# Altium integrated library Resistors$.IntLib: 1243 symbols (part 6 of 7)
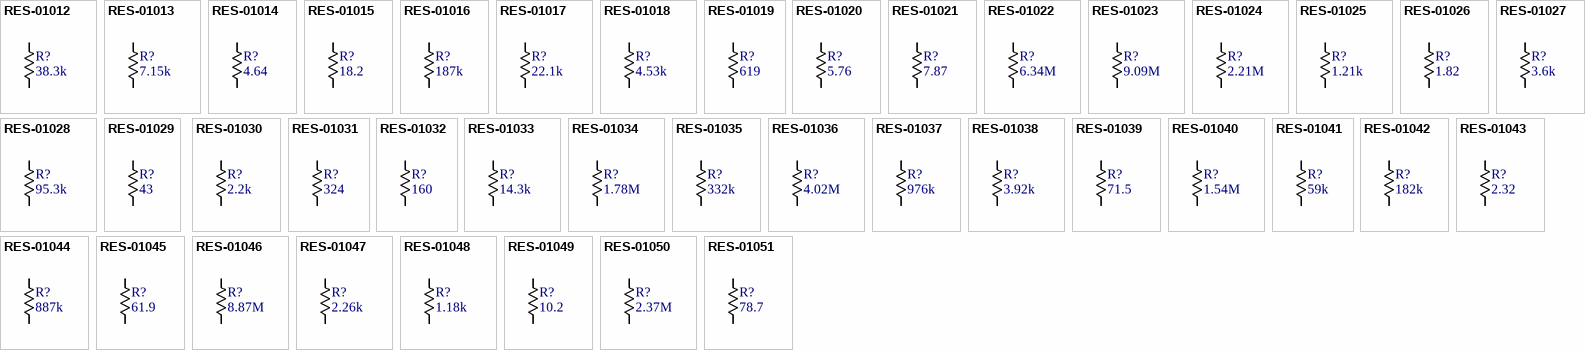
[diagram p37: symbols RES-01012 to RES-01051]

## RES-01018
designator R?, comment 4.53k
RES SMD 4.53K OHM 1% 1/10W 0603; Part Number: RES-01018; Manufacturer: Vishay Dale; Manufacturer PN: CRCW06034K53FKEA; Resistance: 4.53k; Tolerance: ±1%; Power Rating: 1/10W; Cost: 0.1
footprint chip_0603
pins: 1, 2

## RES-01019
designator R?, comment 619
RES SMD 619 OHM 1% 1/10W 0603; Part Number: RES-01019; Manufacturer: Vishay Dale; Manufacturer PN: CRCW0603619RFKEA; Resistance: 619; Tolerance: ±1%; Power Rating: 1/10W; Cost: 0.1
footprint chip_0603
pins: 1, 2

## RES-01020
designator R?, comment 5.76
RES SMD 5.76 OHM 1% 1/10W 0603; Part Number: RES-01020; Manufacturer: Vishay Dale; Manufacturer PN: CRCW06035R76FKEA; Resistance: 5.76; Tolerance: ±1%; Power Rating: 1/10W; Cost: 0.1
footprint chip_0603
pins: 1, 2

## RES-01021
designator R?, comment 7.87
RES SMD 7.87 OHM 1% 1/10W 0603; Part Number: RES-01021; Manufacturer: Vishay Dale; Manufacturer PN: CRCW06037R87FKEA; Resistance: 7.87; Tolerance: ±1%; Power Rating: 1/10W; Cost: 0.1
footprint chip_0603
pins: 1, 2

## RES-01022
designator R?, comment 6.34M
RES SMD 6.34M OHM 1% 1/10W 0603; Part Number: RES-01022; Manufacturer: Vishay Dale; Manufacturer PN: CRCW06036M34FKEA; Resistance: 6.34M; Tolerance: ±1%; Power Rating: 1/10W; Cost: 0.1
footprint chip_0603
pins: 1, 2

## RES-01023
designator R?, comment 9.09M
RES SMD 9.09M OHM 1% 1/10W 0603; Part Number: RES-01023; Manufacturer: Vishay Dale; Manufacturer PN: CRCW06039M09FKEA; Resistance: 9.09M; Tolerance: ±1%; Power Rating: 1/10W; Cost: 0.1
footprint chip_0603
pins: 1, 2

## RES-01024
designator R?, comment 2.21M
RES SMD 2.21M OHM 1% 1/10W 0603; Part Number: RES-01024; Manufacturer: Vishay Dale; Manufacturer PN: CRCW06032M21FKEA; Resistance: 2.21M; Tolerance: ±1%; Power Rating: 1/10W; Cost: 0.1
footprint chip_0603
pins: 1, 2

## RES-01025
designator R?, comment 1.21k
RES SMD 1.21K OHM 1% 1/10W 0603; Part Number: RES-01025; Manufacturer: Vishay Dale; Manufacturer PN: CRCW06031K21FKEA; Resistance: 1.21k; Tolerance: ±1%; Power Rating: 1/10W; Cost: 0.1
footprint chip_0603
pins: 1, 2

## RES-01026
designator R?, comment 1.82
RES SMD 1.82 OHM 1% 1/10W 0603; Part Number: RES-01026; Manufacturer: Vishay Dale; Manufacturer PN: CRCW06031R82FKEA; Resistance: 1.82; Tolerance: ±1%; Power Rating: 1/10W; Cost: 0.1
footprint chip_0603
pins: 1, 2

## RES-01027
designator R?, comment 3.6k
RES SMD 3.6K OHM 1% 1/10W 0603; Part Number: RES-01027; Manufacturer: Vishay Dale; Manufacturer PN: CRCW06033K60FKEA; Resistance: 3.6k; Tolerance: ±1%; Power Rating: 1/10W; Cost: 0.1
footprint chip_0603
pins: 1, 2

## RES-01028
designator R?, comment 95.3k
RES SMD 95.3K OHM 1% 1/10W 0603; Part Number: RES-01028; Manufacturer: Vishay Dale; Manufacturer PN: CRCW060395K3FKEA; Resistance: 95.3k; Tolerance: ±1%; Power Rating: 1/10W; Cost: 0.1
footprint chip_0603
pins: 1, 2

## RES-01029
designator R?, comment 43
RES SMD 43 OHM 1% 1/10W 0603; Part Number: RES-01029; Manufacturer: Vishay Dale; Manufacturer PN: CRCW060343R0FKEA; Resistance: 43; Tolerance: ±1%; Power Rating: 1/10W; Cost: 0.1
footprint chip_0603
pins: 1, 2

## RES-01030
designator R?, comment 2.2k
RES SMD 2.2K OHM 1% 1/10W 0603; Part Number: RES-01030; Manufacturer: Vishay Dale; Manufacturer PN: CRCW06032K20FKEB; Resistance: 2.2k; Tolerance: ±1%; Power Rating: 1/10W; Cost: 0.1
footprint chip_0603
pins: 1, 2

## RES-01031
designator R?, comment 324
RES SMD 324 OHM 1% 1/10W 0603; Part Number: RES-01031; Manufacturer: Vishay Dale; Manufacturer PN: CRCW0603324RFKEA; Resistance: 324; Tolerance: ±1%; Power Rating: 1/10W; Cost: 0.1
footprint chip_0603
pins: 1, 2

## RES-01032
designator R?, comment 160
RES SMD 160 OHM 1% 1/10W 0603; Part Number: RES-01032; Manufacturer: Vishay Dale; Manufacturer PN: CRCW0603160RFKEA; Resistance: 160; Tolerance: ±1%; Power Rating: 1/10W; Cost: 0.1
footprint chip_0603
pins: 1, 2

## RES-01033
designator R?, comment 14.3k
RES SMD 14.3K OHM 1% 1/10W 0603; Part Number: RES-01033; Manufacturer: Vishay Dale; Manufacturer PN: CRCW060314K3FKEA; Resistance: 14.3k; Tolerance: ±1%; Power Rating: 1/10W; Cost: 0.1
footprint chip_0603
pins: 1, 2

## RES-01034
designator R?, comment 1.78M
RES SMD 1.78M OHM 1% 1/10W 0603; Part Number: RES-01034; Manufacturer: Vishay Dale; Manufacturer PN: CRCW06031M78FKEA; Resistance: 1.78M; Tolerance: ±1%; Power Rating: 1/10W; Cost: 0.1
footprint chip_0603
pins: 1, 2

## RES-01035
designator R?, comment 332k
RES SMD 332K OHM 1% 1/10W 0603; Part Number: RES-01035; Manufacturer: Vishay Dale; Manufacturer PN: CRCW0603332KFKEA; Resistance: 332k; Tolerance: ±1%; Power Rating: 1/10W; Cost: 0.1
footprint chip_0603
pins: 1, 2

## RES-01036
designator R?, comment 4.02M
RES SMD 4.02M OHM 1% 1/10W 0603; Part Number: RES-01036; Manufacturer: Vishay Dale; Manufacturer PN: CRCW06034M02FKEA; Resistance: 4.02M; Tolerance: ±1%; Power Rating: 1/10W; Cost: 0.1
footprint chip_0603
pins: 1, 2

## RES-01037
designator R?, comment 976k
RES SMD 976K OHM 1% 1/10W 0603; Part Number: RES-01037; Manufacturer: Vishay Dale; Manufacturer PN: CRCW0603976KFKEA; Resistance: 976k; Tolerance: ±1%; Power Rating: 1/10W; Cost: 0.1
footprint chip_0603
pins: 1, 2

## RES-01038
designator R?, comment 3.92k
RES SMD 3.92K OHM 1% 1/10W 0603; Part Number: RES-01038; Manufacturer: Vishay Dale; Manufacturer PN: CRCW06033K92FKEA; Resistance: 3.92k; Tolerance: ±1%; Power Rating: 1/10W; Cost: 0.1
footprint chip_0603
pins: 1, 2

## RES-01039
designator R?, comment 71.5
RES SMD 71.5 OHM 1% 1/10W 0603; Part Number: RES-01039; Manufacturer: Vishay Dale; Manufacturer PN: CRCW060371R5FKEA; Resistance: 71.5; Tolerance: ±1%; Power Rating: 1/10W; Cost: 0.1
footprint chip_0603
pins: 1, 2

## RES-01040
designator R?, comment 1.54M
RES SMD 1.54M OHM 1% 1/10W 0603; Part Number: RES-01040; Manufacturer: Vishay Dale; Manufacturer PN: CRCW06031M54FKEA; Resistance: 1.54M; Tolerance: ±1%; Power Rating: 1/10W; Cost: 0.1
footprint chip_0603
pins: 1, 2

## RES-01041
designator R?, comment 59k
RES SMD 59K OHM 1% 1/10W 0603; Part Number: RES-01041; Manufacturer: Vishay Dale; Manufacturer PN: CRCW060359K0FKEA; Resistance: 59k; Tolerance: ±1%; Power Rating: 1/10W; Cost: 0.1
footprint chip_0603
pins: 1, 2

## RES-01042
designator R?, comment 182k
RES SMD 182K OHM 1% 1/10W 0603; Part Number: RES-01042; Manufacturer: Vishay Dale; Manufacturer PN: CRCW0603182KFKEA; Resistance: 182k; Tolerance: ±1%; Power Rating: 1/10W; Cost: 0.1
footprint chip_0603
pins: 1, 2

## RES-01043
designator R?, comment 2.32
RES SMD 2.32 OHM 1% 1/10W 0603; Part Number: RES-01043; Manufacturer: Vishay Dale; Manufacturer PN: CRCW06032R32FKEA; Resistance: 2.32; Tolerance: ±1%; Power Rating: 1/10W; Cost: 0.1
footprint chip_0603
pins: 1, 2

## RES-01044
designator R?, comment 887k
RES SMD 887K OHM 1% 1/10W 0603; Part Number: RES-01044; Manufacturer: Vishay Dale; Manufacturer PN: CRCW0603887KFKEA; Resistance: 887k; Tolerance: ±1%; Power Rating: 1/10W; Cost: 0.1
footprint chip_0603
pins: 1, 2

## RES-01045
designator R?, comment 61.9
RES SMD 61.9 OHM 1% 1/10W 0603; Part Number: RES-01045; Manufacturer: Vishay Dale; Manufacturer PN: CRCW060361R9FKEA; Resistance: 61.9; Tolerance: ±1%; Power Rating: 1/10W; Cost: 0.1
footprint chip_0603
pins: 1, 2

## RES-01046
designator R?, comment 8.87M
RES SMD 8.87M OHM 1% 1/10W 0603; Part Number: RES-01046; Manufacturer: Vishay Dale; Manufacturer PN: CRCW06038M87FKEA; Resistance: 8.87M; Tolerance: ±1%; Power Rating: 1/10W; Cost: 0.1
footprint chip_0603
pins: 1, 2

## RES-01047
designator R?, comment 2.26k
RES SMD 2.26K OHM 1% 1/10W 0603; Part Number: RES-01047; Manufacturer: Vishay Dale; Manufacturer PN: CRCW06032K26FKEA; Resistance: 2.26k; Tolerance: ±1%; Power Rating: 1/10W; Cost: 0.1
footprint chip_0603
pins: 1, 2

## RES-01048
designator R?, comment 1.18k
RES SMD 1.18K OHM 1% 1/10W 0603; Part Number: RES-01048; Manufacturer: Vishay Dale; Manufacturer PN: CRCW06031K18FKEA; Resistance: 1.18k; Tolerance: ±1%; Power Rating: 1/10W; Cost: 0.1
footprint chip_0603
pins: 1, 2

## RES-01049
designator R?, comment 10.2
RES SMD 10.2 OHM 1% 1/10W 0603; Part Number: RES-01049; Manufacturer: Vishay Dale; Manufacturer PN: CRCW060310R2FKEA; Resistance: 10.2; Tolerance: ±1%; Power Rating: 1/10W; Cost: 0.1
footprint chip_0603
pins: 1, 2

## RES-01050
designator R?, comment 2.37M
RES SMD 2.37M OHM 1% 1/10W 0603; Part Number: RES-01050; Manufacturer: Vishay Dale; Manufacturer PN: CRCW06032M37FKEA; Resistance: 2.37M; Tolerance: ±1%; Power Rating: 1/10W; Cost: 0.1
footprint chip_0603
pins: 1, 2

## RES-01051
designator R?, comment 78.7
RES SMD 78.7 OHM 1% 1/10W 0603; Part Number: RES-01051; Manufacturer: Vishay Dale; Manufacturer PN: CRCW060378R7FKEA; Resistance: 78.7; Tolerance: ±1%; Power Rating: 1/10W; Cost: 0.1
footprint chip_0603
pins: 1, 2

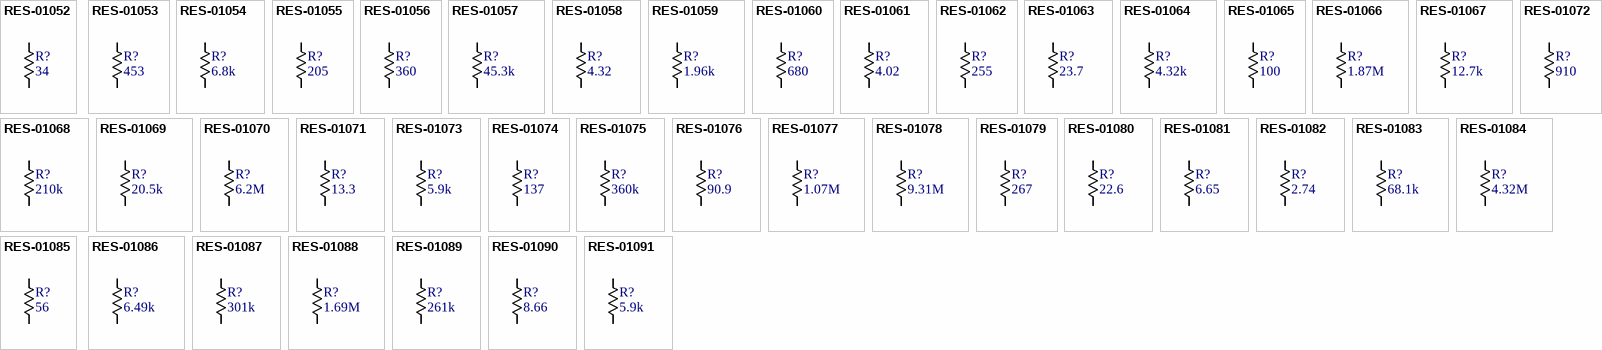
[diagram p28: symbols RES-01052 to RES-01091]

## RES-01052
designator R?, comment 34
RES SMD 34 OHM 1% 1/10W 0603; Part Number: RES-01052; Manufacturer: Vishay Dale; Manufacturer PN: CRCW060334R0FKEA; Resistance: 34; Tolerance: ±1%; Power Rating: 1/10W; Cost: 0.1
footprint chip_0603
pins: 1, 2

## RES-01053
designator R?, comment 453
RES SMD 453 OHM 1% 1/10W 0603; Part Number: RES-01053; Manufacturer: Vishay Dale; Manufacturer PN: CRCW0603453RFKEA; Resistance: 453; Tolerance: ±1%; Power Rating: 1/10W; Cost: 0.1
footprint chip_0603
pins: 1, 2

## RES-01054
designator R?, comment 6.8k
RES SMD 6.8K OHM 1% 1/10W 0603; Part Number: RES-01054; Manufacturer: Vishay Dale; Manufacturer PN: CRCW06036K80FKEA; Resistance: 6.8k; Tolerance: ±1%; Power Rating: 1/10W; Cost: 0.1
footprint chip_0603
pins: 1, 2

## RES-01055
designator R?, comment 205
RES SMD 205 OHM 1% 1/10W 0603; Part Number: RES-01055; Manufacturer: Vishay Dale; Manufacturer PN: CRCW0603205RFKEA; Resistance: 205; Tolerance: ±1%; Power Rating: 1/10W; Cost: 0.1
footprint chip_0603
pins: 1, 2

## RES-01056
designator R?, comment 360
RES SMD 360 OHM 1% 1/10W 0603; Part Number: RES-01056; Manufacturer: Vishay Dale; Manufacturer PN: CRCW0603360RFKEA; Resistance: 360; Tolerance: ±1%; Power Rating: 1/10W; Cost: 0.1
footprint chip_0603
pins: 1, 2

## RES-01057
designator R?, comment 45.3k
RES SMD 45.3K OHM 1% 1/10W 0603; Part Number: RES-01057; Manufacturer: Vishay Dale; Manufacturer PN: CRCW060345K3FKEA; Resistance: 45.3k; Tolerance: ±1%; Power Rating: 1/10W; Cost: 0.1
footprint chip_0603
pins: 1, 2

## RES-01058
designator R?, comment 4.32
RES SMD 4.32 OHM 1% 1/10W 0603; Part Number: RES-01058; Manufacturer: Vishay Dale; Manufacturer PN: CRCW06034R32FKEA; Resistance: 4.32; Tolerance: ±1%; Power Rating: 1/10W; Cost: 0.1
footprint chip_0603
pins: 1, 2

## RES-01059
designator R?, comment 1.96k
RES SMD 1.96K OHM 1% 1/10W 0603; Part Number: RES-01059; Manufacturer: Vishay Dale; Manufacturer PN: CRCW06031K96FKEA; Resistance: 1.96k; Tolerance: ±1%; Power Rating: 1/10W; Cost: 0.1
footprint chip_0603
pins: 1, 2

## RES-01060
designator R?, comment 680
RES SMD 680 OHM 1% 1/10W 0603; Part Number: RES-01060; Manufacturer: Vishay Dale; Manufacturer PN: CRCW0603680RFKEA; Resistance: 680; Tolerance: ±1%; Power Rating: 1/10W; Cost: 0.1
footprint chip_0603
pins: 1, 2

## RES-01061
designator R?, comment 4.02
RES SMD 4.02 OHM 1% 1/10W 0603; Part Number: RES-01061; Manufacturer: Vishay Dale; Manufacturer PN: CRCW06034R02FKEA; Resistance: 4.02; Tolerance: ±1%; Power Rating: 1/10W; Cost: 0.1
footprint chip_0603
pins: 1, 2

## RES-01062
designator R?, comment 255
RES SMD 255 OHM 1% 1/10W 0603; Part Number: RES-01062; Manufacturer: Vishay Dale; Manufacturer PN: CRCW0603255RFKEA; Resistance: 255; Tolerance: ±1%; Power Rating: 1/10W; Cost: 0.1
footprint chip_0603
pins: 1, 2

## RES-01063
designator R?, comment 23.7
RES SMD 23.7 OHM 1% 1/10W 0603; Part Number: RES-01063; Manufacturer: Vishay Dale; Manufacturer PN: CRCW060323R7FKEA; Resistance: 23.7; Tolerance: ±1%; Power Rating: 1/10W; Cost: 0.1
footprint chip_0603
pins: 1, 2

## RES-01064
designator R?, comment 4.32k
RES SMD 4.32K OHM 1% 1/10W 0603; Part Number: RES-01064; Manufacturer: Vishay Dale; Manufacturer PN: CRCW06034K32FKEA; Resistance: 4.32k; Tolerance: ±1%; Power Rating: 1/10W; Cost: 0.1
footprint chip_0603
pins: 1, 2

## RES-01065
designator R?, comment 100
RES SMD 100 OHM 1% 1/10W 0603; Part Number: RES-01065; Manufacturer: Vishay Dale; Manufacturer PN: CRCW0603100RFKEB; Resistance: 100; Tolerance: ±1%; Power Rating: 1/10W; Cost: 0.1
footprint chip_0603
pins: 1, 2

## RES-01066
designator R?, comment 1.87M
RES SMD 1.87M OHM 1% 1/10W 0603; Part Number: RES-01066; Manufacturer: Vishay Dale; Manufacturer PN: CRCW06031M87FKEA; Resistance: 1.87M; Tolerance: ±1%; Power Rating: 1/10W; Cost: 0.1
footprint chip_0603
pins: 1, 2

## RES-01067
designator R?, comment 12.7k
RES SMD 12.7K OHM 1% 1/10W 0603; Part Number: RES-01067; Manufacturer: Vishay Dale; Manufacturer PN: CRCW060312K7FKEA; Resistance: 12.7k; Tolerance: ±1%; Power Rating: 1/10W; Cost: 0.1
footprint chip_0603
pins: 1, 2

## RES-01068
designator R?, comment 210k
RES SMD 210K OHM 1% 1/10W 0603; Part Number: RES-01068; Manufacturer: Vishay Dale; Manufacturer PN: CRCW0603210KFKEA; Resistance: 210k; Tolerance: ±1%; Power Rating: 1/10W; Cost: 0.1
footprint chip_0603
pins: 1, 2

## RES-01069
designator R?, comment 20.5k
RES SMD 20.5K OHM 1% 1/10W 0603; Part Number: RES-01069; Manufacturer: Vishay Dale; Manufacturer PN: CRCW060320K5FKEA; Resistance: 20.5k; Tolerance: ±1%; Power Rating: 1/10W; Cost: 0.1
footprint chip_0603
pins: 1, 2

## RES-01070
designator R?, comment 6.2M
RES SMD 6.2M OHM 1% 1/10W 0603; Part Number: RES-01070; Manufacturer: Vishay Dale; Manufacturer PN: CRCW06036M20FKEA; Resistance: 6.2M; Tolerance: ±1%; Power Rating: 1/10W; Cost: 0.1
footprint chip_0603
pins: 1, 2

## RES-01071
designator R?, comment 13.3
RES SMD 13.3 OHM 1% 1/10W 0603; Part Number: RES-01071; Manufacturer: Vishay Dale; Manufacturer PN: CRCW060313R3FKEA; Resistance: 13.3; Tolerance: ±1%; Power Rating: 1/10W; Cost: 0.1
footprint chip_0603
pins: 1, 2

## RES-01072
designator R?, comment 910
RES SMD 910 OHM 1% 1/10W 0603; Part Number: RES-01072; Manufacturer: Vishay Dale; Manufacturer PN: CRCW0603910RFKEA; Resistance: 910; Tolerance: ±1%; Power Rating: 1/10W; Cost: 0.1
footprint chip_0603
pins: 1, 2

## RES-01073
designator R?, comment 5.9k
RES SMD 5.9K OHM 1% 1/10W 0603; Part Number: RES-01073; Manufacturer: Vishay Dale; Manufacturer PN: CRCW06035K90FKEA; Resistance: 5.9k; Tolerance: ±1%; Power Rating: 1/10W; Cost: 0.1
footprint chip_0603
pins: 1, 2

## RES-01074
designator R?, comment 137
RES SMD 137 OHM 1% 1/10W 0603; Part Number: RES-01074; Manufacturer: Vishay Dale; Manufacturer PN: CRCW0603137RFKEA; Resistance: 137; Tolerance: ±1%; Power Rating: 1/10W; Cost: 0.1
footprint chip_0603
pins: 1, 2

## RES-01075
designator R?, comment 360k
RES SMD 360K OHM 1% 1/10W 0603; Part Number: RES-01075; Manufacturer: Vishay Dale; Manufacturer PN: CRCW0603360KFKEA; Resistance: 360k; Tolerance: ±1%; Power Rating: 1/10W; Cost: 0.1
footprint chip_0603
pins: 1, 2

## RES-01076
designator R?, comment 90.9
RES SMD 90.9 OHM 1% 1/10W 0603; Part Number: RES-01076; Manufacturer: Vishay Dale; Manufacturer PN: CRCW060390R9FKEA; Resistance: 90.9; Tolerance: ±1%; Power Rating: 1/10W; Cost: 0.1
footprint chip_0603
pins: 1, 2

## RES-01077
designator R?, comment 1.07M
RES SMD 1.07M OHM 1% 1/10W 0603; Part Number: RES-01077; Manufacturer: Vishay Dale; Manufacturer PN: CRCW06031M07FKEA; Resistance: 1.07M; Tolerance: ±1%; Power Rating: 1/10W; Cost: 0.1
footprint chip_0603
pins: 1, 2

## RES-01078
designator R?, comment 9.31M
RES SMD 9.31M OHM 1% 1/10W 0603; Part Number: RES-01078; Manufacturer: Vishay Dale; Manufacturer PN: CRCW06039M31FKEA; Resistance: 9.31M; Tolerance: ±1%; Power Rating: 1/10W; Cost: 0.1
footprint chip_0603
pins: 1, 2

## RES-01079
designator R?, comment 267
RES SMD 267 OHM 1% 1/10W 0603; Part Number: RES-01079; Manufacturer: Vishay Dale; Manufacturer PN: CRCW0603267RFKEA; Resistance: 267; Tolerance: ±1%; Power Rating: 1/10W; Cost: 0.1
footprint chip_0603
pins: 1, 2

## RES-01080
designator R?, comment 22.6
RES SMD 22.6 OHM 1% 1/10W 0603; Part Number: RES-01080; Manufacturer: Vishay Dale; Manufacturer PN: CRCW060322R6FKEA; Resistance: 22.6; Tolerance: ±1%; Power Rating: 1/10W; Cost: 0.1
footprint chip_0603
pins: 1, 2

## RES-01081
designator R?, comment 6.65
RES SMD 6.65 OHM 1% 1/10W 0603; Part Number: RES-01081; Manufacturer: Vishay Dale; Manufacturer PN: CRCW06036R65FKEA; Resistance: 6.65; Tolerance: ±1%; Power Rating: 1/10W; Cost: 0.1
footprint chip_0603
pins: 1, 2

## RES-01082
designator R?, comment 2.74
RES SMD 2.74 OHM 1% 1/10W 0603; Part Number: RES-01082; Manufacturer: Vishay Dale; Manufacturer PN: CRCW06032R74FKEA; Resistance: 2.74; Tolerance: ±1%; Power Rating: 1/10W; Cost: 0.1
footprint chip_0603
pins: 1, 2

## RES-01083
designator R?, comment 68.1k
RES SMD 68.1K OHM 1% 1/10W 0603; Part Number: RES-01083; Manufacturer: Vishay Dale; Manufacturer PN: CRCW060368K1FKEB; Resistance: 68.1k; Tolerance: ±1%; Power Rating: 1/10W; Cost: 0.1
footprint chip_0603
pins: 1, 2

## RES-01084
designator R?, comment 4.32M
RES SMD 4.32M OHM 1% 1/10W 0603; Part Number: RES-01084; Manufacturer: Vishay Dale; Manufacturer PN: CRCW06034M32FKEA; Resistance: 4.32M; Tolerance: ±1%; Power Rating: 1/10W; Cost: 0.1
footprint chip_0603
pins: 1, 2

## RES-01085
designator R?, comment 56
RES SMD 56 OHM 1% 1/10W 0603; Part Number: RES-01085; Manufacturer: Vishay Dale; Manufacturer PN: CRCW060356R0FKEB; Resistance: 56; Tolerance: ±1%; Power Rating: 1/10W; Cost: 0.1
footprint chip_0603
pins: 1, 2

## RES-01086
designator R?, comment 6.49k
RES SMD 6.49K OHM 1% 1/10W 0603; Part Number: RES-01086; Manufacturer: Vishay Dale; Manufacturer PN: CRCW06036K49FKEB; Resistance: 6.49k; Tolerance: ±1%; Power Rating: 1/10W; Cost: 0.1
footprint chip_0603
pins: 1, 2

## RES-01087
designator R?, comment 301k
RES SMD 301K OHM 1% 1/10W 0603; Part Number: RES-01087; Manufacturer: Vishay Dale; Manufacturer PN: CRCW0603301KFKEB; Resistance: 301k; Tolerance: ±1%; Power Rating: 1/10W; Cost: 0.1
footprint chip_0603
pins: 1, 2

## RES-01088
designator R?, comment 1.69M
RES SMD 1.69M OHM 1% 1/10W 0603; Part Number: RES-01088; Manufacturer: Vishay Dale; Manufacturer PN: CRCW06031M69FKEA; Resistance: 1.69M; Tolerance: ±1%; Power Rating: 1/10W; Cost: 0.1
footprint chip_0603
pins: 1, 2

## RES-01089
designator R?, comment 261k
RES SMD 261K OHM 1% 1/10W 0603; Part Number: RES-01089; Manufacturer: Vishay Dale; Manufacturer PN: CRCW0603261KFKEA; Resistance: 261k; Tolerance: ±1%; Power Rating: 1/10W; Cost: 0.1
footprint chip_0603
pins: 1, 2

## RES-01090
designator R?, comment 8.66
RES SMD 8.66 OHM 1% 1/10W 0603; Part Number: RES-01090; Manufacturer: Vishay Dale; Manufacturer PN: CRCW06038R66FKEA; Resistance: 8.66; Tolerance: ±1%; Power Rating: 1/10W; Cost: 0.1
footprint chip_0603
pins: 1, 2

## RES-01091
designator R?, comment 5.9k
RES SMD 5.9K OHM 1% 1/10W 0603; Part Number: RES-01091; Manufacturer: Vishay Dale; Manufacturer PN: CRCW06035K90FKEB; Resistance: 5.9k; Tolerance: ±1%; Power Rating: 1/10W; Cost: 0.1
footprint chip_0603
pins: 1, 2

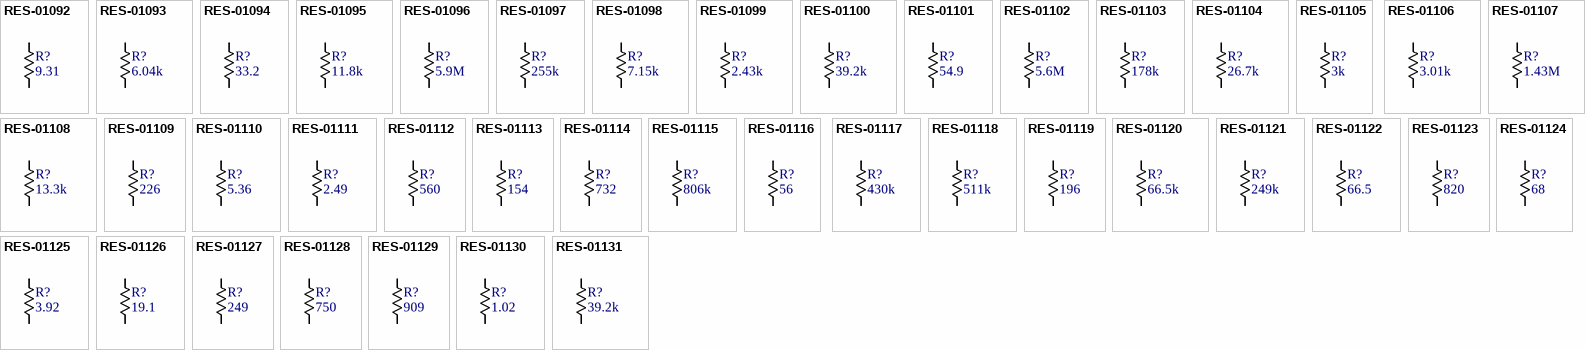
[diagram p29: symbols RES-01092 to RES-01131]

## RES-01092
designator R?, comment 9.31
RES SMD 9.31 OHM 1% 1/10W 0603; Part Number: RES-01092; Manufacturer: Vishay Dale; Manufacturer PN: CRCW06039R31FKEA; Resistance: 9.31; Tolerance: ±1%; Power Rating: 1/10W; Cost: 0.1
footprint chip_0603
pins: 1, 2

## RES-01093
designator R?, comment 6.04k
RES SMD 6.04K OHM 1% 1/10W 0603; Part Number: RES-01093; Manufacturer: Vishay Dale; Manufacturer PN: CRCW06036K04FKEA; Resistance: 6.04k; Tolerance: ±1%; Power Rating: 1/10W; Cost: 0.1
footprint chip_0603
pins: 1, 2

## RES-01094
designator R?, comment 33.2
RES SMD 33.2 OHM 1% 1/10W 0603; Part Number: RES-01094; Manufacturer: Vishay Dale; Manufacturer PN: CRCW060333R2FKEB; Resistance: 33.2; Tolerance: ±1%; Power Rating: 1/10W; Cost: 0.1
footprint chip_0603
pins: 1, 2

## RES-01095
designator R?, comment 11.8k
RES SMD 11.8K OHM 1% 1/10W 0603; Part Number: RES-01095; Manufacturer: Vishay Dale; Manufacturer PN: CRCW060311K8FKEB; Resistance: 11.8k; Tolerance: ±1%; Power Rating: 1/10W; Cost: 0.1
footprint chip_0603
pins: 1, 2

## RES-01096
designator R?, comment 5.9M
RES SMD 5.9M OHM 1% 1/10W 0603; Part Number: RES-01096; Manufacturer: Vishay Dale; Manufacturer PN: CRCW06035M90FKEA; Resistance: 5.9M; Tolerance: ±1%; Power Rating: 1/10W; Cost: 0.1
footprint chip_0603
pins: 1, 2

## RES-01097
designator R?, comment 255k
RES SMD 255K OHM 1% 1/10W 0603; Part Number: RES-01097; Manufacturer: Vishay Dale; Manufacturer PN: CRCW0603255KFKEA; Resistance: 255k; Tolerance: ±1%; Power Rating: 1/10W; Cost: 0.1
footprint chip_0603
pins: 1, 2

## RES-01098
designator R?, comment 7.15k
RES SMD 7.15K OHM 1% 1/10W 0603; Part Number: RES-01098; Manufacturer: Vishay Dale; Manufacturer PN: CRCW06037K15FKEB; Resistance: 7.15k; Tolerance: ±1%; Power Rating: 1/10W; Cost: 0.1
footprint chip_0603
pins: 1, 2

## RES-01099
designator R?, comment 2.43k
RES SMD 2.43K OHM 1% 1/10W 0603; Part Number: RES-01099; Manufacturer: Vishay Dale; Manufacturer PN: CRCW06032K43FKEB; Resistance: 2.43k; Tolerance: ±1%; Power Rating: 1/10W; Cost: 0.1
footprint chip_0603
pins: 1, 2

## RES-01100
designator R?, comment 39.2k
RES SMD 39.2K OHM 1% 1/10W 0603; Part Number: RES-01100; Manufacturer: Vishay Dale; Manufacturer PN: CRCW060339K2FKEB; Resistance: 39.2k; Tolerance: ±1%; Power Rating: 1/10W; Cost: 0.1
footprint chip_0603
pins: 1, 2

## RES-01101
designator R?, comment 54.9
RES SMD 54.9 OHM 1% 1/10W 0603; Part Number: RES-01101; Manufacturer: Vishay Dale; Manufacturer PN: CRCW060354R9FKEA; Resistance: 54.9; Tolerance: ±1%; Power Rating: 1/10W; Cost: 0.1
footprint chip_0603
pins: 1, 2

## RES-01102
designator R?, comment 5.6M
RES SMD 5.6M OHM 1% 1/10W 0603; Part Number: RES-01102; Manufacturer: Vishay Dale; Manufacturer PN: CRCW06035M60FKEA; Resistance: 5.6M; Tolerance: ±1%; Power Rating: 1/10W; Cost: 0.1
footprint chip_0603
pins: 1, 2

## RES-01103
designator R?, comment 178k
RES SMD 178K OHM 1% 1/10W 0603; Part Number: RES-01103; Manufacturer: Vishay Dale; Manufacturer PN: CRCW0603178KFKEA; Resistance: 178k; Tolerance: ±1%; Power Rating: 1/10W; Cost: 0.1
footprint chip_0603
pins: 1, 2

## RES-01104
designator R?, comment 26.7k
RES SMD 26.7K OHM 1% 1/10W 0603; Part Number: RES-01104; Manufacturer: Vishay Dale; Manufacturer PN: CRCW060326K7FKEB; Resistance: 26.7k; Tolerance: ±1%; Power Rating: 1/10W; Cost: 0.1
footprint chip_0603
pins: 1, 2

## RES-01105
designator R?, comment 3k
RES SMD 3K OHM 1% 1/10W 0603; Part Number: RES-01105; Manufacturer: Vishay Dale; Manufacturer PN: CRCW06033K00FKEA; Resistance: 3k; Tolerance: ±1%; Power Rating: 1/10W; Cost: 0.1
footprint chip_0603
pins: 1, 2

## RES-01106
designator R?, comment 3.01k
RES SMD 3.01K OHM 1% 1/10W 0603; Part Number: RES-01106; Manufacturer: Vishay Dale; Manufacturer PN: CRCW06033K01FKEB; Resistance: 3.01k; Tolerance: ±1%; Power Rating: 1/10W; Cost: 0.1
footprint chip_0603
pins: 1, 2

## RES-01107
designator R?, comment 1.43M
RES SMD 1.43M OHM 1% 1/10W 0603; Part Number: RES-01107; Manufacturer: Vishay Dale; Manufacturer PN: CRCW06031M43FKEA; Resistance: 1.43M; Tolerance: ±1%; Power Rating: 1/10W; Cost: 0.1
footprint chip_0603
pins: 1, 2

## RES-01108
designator R?, comment 13.3k
RES SMD 13.3K OHM 1% 1/10W 0603; Part Number: RES-01108; Manufacturer: Vishay Dale; Manufacturer PN: CRCW060313K3FKEB; Resistance: 13.3k; Tolerance: ±1%; Power Rating: 1/10W; Cost: 0.1
footprint chip_0603
pins: 1, 2

## RES-01109
designator R?, comment 226
RES SMD 226 OHM 1% 1/10W 0603; Part Number: RES-01109; Manufacturer: Vishay Dale; Manufacturer PN: CRCW0603226RFKEA; Resistance: 226; Tolerance: ±1%; Power Rating: 1/10W; Cost: 0.1
footprint chip_0603
pins: 1, 2

## RES-01110
designator R?, comment 5.36
RES SMD 5.36 OHM 1% 1/10W 0603; Part Number: RES-01110; Manufacturer: Vishay Dale; Manufacturer PN: CRCW06035R36FKEA; Resistance: 5.36; Tolerance: ±1%; Power Rating: 1/10W; Cost: 0.1
footprint chip_0603
pins: 1, 2

## RES-01111
designator R?, comment 2.49
RES SMD 2.49 OHM 1% 1/10W 0603; Part Number: RES-01111; Manufacturer: Vishay Dale; Manufacturer PN: CRCW06032R49FKEA; Resistance: 2.49; Tolerance: ±1%; Power Rating: 1/10W; Cost: 0.1
footprint chip_0603
pins: 1, 2

## RES-01112
designator R?, comment 560
RES SMD 560 OHM 1% 1/10W 0603; Part Number: RES-01112; Manufacturer: Vishay Dale; Manufacturer PN: CRCW0603560RFKEA; Resistance: 560; Tolerance: ±1%; Power Rating: 1/10W; Cost: 0.1
footprint chip_0603
pins: 1, 2

## RES-01113
designator R?, comment 154
RES SMD 154 OHM 1% 1/10W 0603; Part Number: RES-01113; Manufacturer: Vishay Dale; Manufacturer PN: CRCW0603154RFKEA; Resistance: 154; Tolerance: ±1%; Power Rating: 1/10W; Cost: 0.1
footprint chip_0603
pins: 1, 2

## RES-01114
designator R?, comment 732
RES SMD 732 OHM 1% 1/10W 0603; Part Number: RES-01114; Manufacturer: Vishay Dale; Manufacturer PN: CRCW0603732RFKEA; Resistance: 732; Tolerance: ±1%; Power Rating: 1/10W; Cost: 0.1
footprint chip_0603
pins: 1, 2

## RES-01115
designator R?, comment 806k
RES SMD 806K OHM 1% 1/10W 0603; Part Number: RES-01115; Manufacturer: Vishay Dale; Manufacturer PN: CRCW0603806KFKEA; Resistance: 806k; Tolerance: ±1%; Power Rating: 1/10W; Cost: 0.1
footprint chip_0603
pins: 1, 2

## RES-01116
designator R?, comment 56
RES SMD 56 OHM 1% 1/10W 0603; Part Number: RES-01116; Manufacturer: Vishay Dale; Manufacturer PN: CRCW060356R0FKEA; Resistance: 56; Tolerance: ±1%; Power Rating: 1/10W; Cost: 0.1
footprint chip_0603
pins: 1, 2

## RES-01117
designator R?, comment 430k
RES SMD 430K OHM 1% 1/10W 0603; Part Number: RES-01117; Manufacturer: Vishay Dale; Manufacturer PN: CRCW0603430KFKEA; Resistance: 430k; Tolerance: ±1%; Power Rating: 1/10W; Cost: 0.1
footprint chip_0603
pins: 1, 2

## RES-01118
designator R?, comment 511k
RES SMD 511K OHM 1% 1/10W 0603; Part Number: RES-01118; Manufacturer: Vishay Dale; Manufacturer PN: CRCW0603511KFKEA; Resistance: 511k; Tolerance: ±1%; Power Rating: 1/10W; Cost: 0.1
footprint chip_0603
pins: 1, 2

## RES-01119
designator R?, comment 196
RES SMD 196 OHM 1% 1/10W 0603; Part Number: RES-01119; Manufacturer: Vishay Dale; Manufacturer PN: CRCW0603196RFKEA; Resistance: 196; Tolerance: ±1%; Power Rating: 1/10W; Cost: 0.1
footprint chip_0603
pins: 1, 2

## RES-01120
designator R?, comment 66.5k
RES SMD 66.5K OHM 1% 1/10W 0603; Part Number: RES-01120; Manufacturer: Vishay Dale; Manufacturer PN: CRCW060366K5FKEB; Resistance: 66.5k; Tolerance: ±1%; Power Rating: 1/10W; Cost: 0.1
footprint chip_0603
pins: 1, 2

## RES-01121
designator R?, comment 249k
RES SMD 249K OHM 1% 1/10W 0603; Part Number: RES-01121; Manufacturer: Vishay Dale; Manufacturer PN: CRCW0603249KFKEB; Resistance: 249k; Tolerance: ±1%; Power Rating: 1/10W; Cost: 0.1
footprint chip_0603
pins: 1, 2

## RES-01122
designator R?, comment 66.5
RES SMD 66.5 OHM 1% 1/10W 0603; Part Number: RES-01122; Manufacturer: Vishay Dale; Manufacturer PN: CRCW060366R5FKEA; Resistance: 66.5; Tolerance: ±1%; Power Rating: 1/10W; Cost: 0.1
footprint chip_0603
pins: 1, 2

## RES-01123
designator R?, comment 820
RES SMD 820 OHM 1% 1/10W 0603; Part Number: RES-01123; Manufacturer: Vishay Dale; Manufacturer PN: CRCW0603820RFKEA; Resistance: 820; Tolerance: ±1%; Power Rating: 1/10W; Cost: 0.1
footprint chip_0603
pins: 1, 2

## RES-01124
designator R?, comment 68
RES SMD 68 OHM 1% 1/10W 0603; Part Number: RES-01124; Manufacturer: Vishay Dale; Manufacturer PN: CRCW060368R0FKEB; Resistance: 68; Tolerance: ±1%; Power Rating: 1/10W; Cost: 0.1
footprint chip_0603
pins: 1, 2

## RES-01125
designator R?, comment 3.92
RES SMD 3.92 OHM 1% 1/10W 0603; Part Number: RES-01125; Manufacturer: Vishay Dale; Manufacturer PN: CRCW06033R92FKEA; Resistance: 3.92; Tolerance: ±1%; Power Rating: 1/10W; Cost: 0.1
footprint chip_0603
pins: 1, 2

## RES-01126
designator R?, comment 19.1
RES SMD 19.1 OHM 1% 1/10W 0603; Part Number: RES-01126; Manufacturer: Vishay Dale; Manufacturer PN: CRCW060319R1FKEA; Resistance: 19.1; Tolerance: ±1%; Power Rating: 1/10W; Cost: 0.1
footprint chip_0603
pins: 1, 2

## RES-01127
designator R?, comment 249
RES SMD 249 OHM 1% 1/10W 0603; Part Number: RES-01127; Manufacturer: Vishay Dale; Manufacturer PN: CRCW0603249RFKEB; Resistance: 249; Tolerance: ±1%; Power Rating: 1/10W; Cost: 0.1
footprint chip_0603
pins: 1, 2

## RES-01128
designator R?, comment 750
RES SMD 750 OHM 1% 1/10W 0603; Part Number: RES-01128; Manufacturer: Vishay Dale; Manufacturer PN: CRCW0603750RFKEB; Resistance: 750; Tolerance: ±1%; Power Rating: 1/10W; Cost: 0.1
footprint chip_0603
pins: 1, 2

## RES-01129
designator R?, comment 909
RES SMD 909 OHM 1% 1/10W 0603; Part Number: RES-01129; Manufacturer: Vishay Dale; Manufacturer PN: CRCW0603909RFKEA; Resistance: 909; Tolerance: ±1%; Power Rating: 1/10W; Cost: 0.1
footprint chip_0603
pins: 1, 2

## RES-01130
designator R?, comment 1.02
RES SMD 1.02 OHM 1% 1/10W 0603; Part Number: RES-01130; Manufacturer: Vishay Dale; Manufacturer PN: CRCW06031R02FKEA; Resistance: 1.02; Tolerance: ±1%; Power Rating: 1/10W; Cost: 0.1
footprint chip_0603
pins: 1, 2

## RES-01131
designator R?, comment 39.2k
RES SMD 39.2K OHM 1% 1/10W 0603; Part Number: RES-01131; Manufacturer: Vishay Dale; Manufacturer PN: CRCW060339K2FKEA; Resistance: 39.2k; Tolerance: ±1%; Power Rating: 1/10W; Cost: 0.1
footprint chip_0603
pins: 1, 2

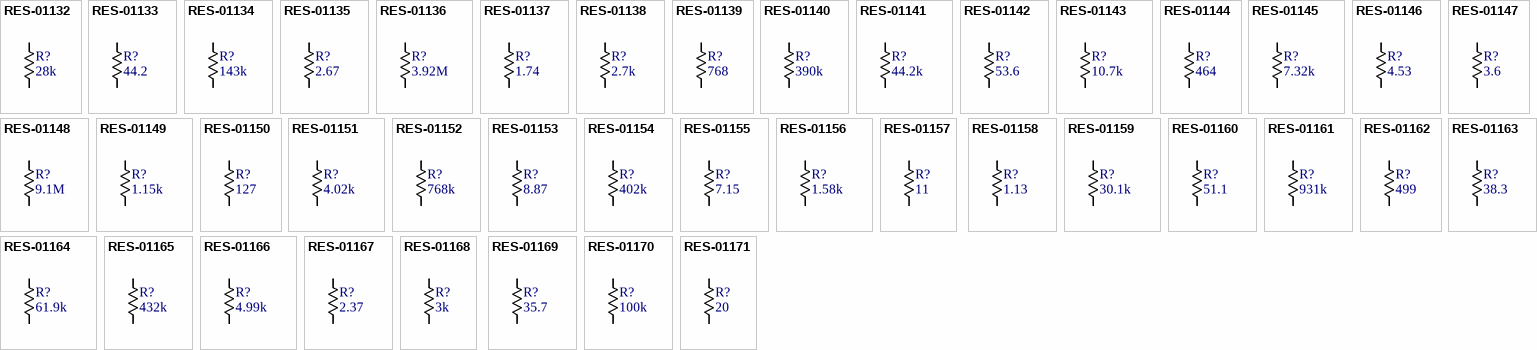
[diagram p30: symbols RES-01132 to RES-01171]

## RES-01132
designator R?, comment 28k
RES SMD 28K OHM 1% 1/10W 0603; Part Number: RES-01132; Manufacturer: Vishay Dale; Manufacturer PN: CRCW060328K0FKEA; Resistance: 28k; Tolerance: ±1%; Power Rating: 1/10W; Cost: 0.1
footprint chip_0603
pins: 1, 2

## RES-01133
designator R?, comment 44.2
RES SMD 44.2 OHM 1% 1/10W 0603; Part Number: RES-01133; Manufacturer: Vishay Dale; Manufacturer PN: CRCW060344R2FKEA; Resistance: 44.2; Tolerance: ±1%; Power Rating: 1/10W; Cost: 0.1
footprint chip_0603
pins: 1, 2

## RES-01134
designator R?, comment 143k
RES SMD 143K OHM 1% 1/10W 0603; Part Number: RES-01134; Manufacturer: Vishay Dale; Manufacturer PN: CRCW0603143KFKEA; Resistance: 143k; Tolerance: ±1%; Power Rating: 1/10W; Cost: 0.1
footprint chip_0603
pins: 1, 2

## RES-01135
designator R?, comment 2.67
RES SMD 2.67 OHM 1% 1/10W 0603; Part Number: RES-01135; Manufacturer: Vishay Dale; Manufacturer PN: CRCW06032R67FKEA; Resistance: 2.67; Tolerance: ±1%; Power Rating: 1/10W; Cost: 0.1
footprint chip_0603
pins: 1, 2

## RES-01136
designator R?, comment 3.92M
RES SMD 3.92M OHM 1% 1/10W 0603; Part Number: RES-01136; Manufacturer: Vishay Dale; Manufacturer PN: CRCW06033M92FKEA; Resistance: 3.92M; Tolerance: ±1%; Power Rating: 1/10W; Cost: 0.1
footprint chip_0603
pins: 1, 2

## RES-01137
designator R?, comment 1.74
RES SMD 1.74 OHM 1% 1/10W 0603; Part Number: RES-01137; Manufacturer: Vishay Dale; Manufacturer PN: CRCW06031R74FKEA; Resistance: 1.74; Tolerance: ±1%; Power Rating: 1/10W; Cost: 0.1
footprint chip_0603
pins: 1, 2

## RES-01138
designator R?, comment 2.7k
RES SMD 2.7K OHM 1% 1/10W 0603; Part Number: RES-01138; Manufacturer: Vishay Dale; Manufacturer PN: CRCW06032K70FKEB; Resistance: 2.7k; Tolerance: ±1%; Power Rating: 1/10W; Cost: 0.1
footprint chip_0603
pins: 1, 2

## RES-01139
designator R?, comment 768
RES SMD 768 OHM 1% 1/10W 0603; Part Number: RES-01139; Manufacturer: Vishay Dale; Manufacturer PN: CRCW0603768RFKEA; Resistance: 768; Tolerance: ±1%; Power Rating: 1/10W; Cost: 0.1
footprint chip_0603
pins: 1, 2

## RES-01140
designator R?, comment 390k
RES SMD 390K OHM 1% 1/10W 0603; Part Number: RES-01140; Manufacturer: Vishay Dale; Manufacturer PN: CRCW0603390KFKEA; Resistance: 390k; Tolerance: ±1%; Power Rating: 1/10W; Cost: 0.1
footprint chip_0603
pins: 1, 2

## RES-01141
designator R?, comment 44.2k
RES SMD 44.2K OHM 1% 1/10W 0603; Part Number: RES-01141; Manufacturer: Vishay Dale; Manufacturer PN: CRCW060344K2FKEB; Resistance: 44.2k; Tolerance: ±1%; Power Rating: 1/10W; Cost: 0.1
footprint chip_0603
pins: 1, 2

## RES-01142
designator R?, comment 53.6
RES SMD 53.6 OHM 1% 1/10W 0603; Part Number: RES-01142; Manufacturer: Vishay Dale; Manufacturer PN: CRCW060353R6FKEA; Resistance: 53.6; Tolerance: ±1%; Power Rating: 1/10W; Cost: 0.1
footprint chip_0603
pins: 1, 2

## RES-01143
designator R?, comment 10.7k
RES SMD 10.7K OHM 1% 1/10W 0603; Part Number: RES-01143; Manufacturer: Vishay Dale; Manufacturer PN: CRCW060310K7FKEB; Resistance: 10.7k; Tolerance: ±1%; Power Rating: 1/10W; Cost: 0.1
footprint chip_0603
pins: 1, 2

## RES-01144
designator R?, comment 464
RES SMD 464 OHM 1% 1/10W 0603; Part Number: RES-01144; Manufacturer: Vishay Dale; Manufacturer PN: CRCW0603464RFKEA; Resistance: 464; Tolerance: ±1%; Power Rating: 1/10W; Cost: 0.1
footprint chip_0603
pins: 1, 2

## RES-01145
designator R?, comment 7.32k
RES SMD 7.32K OHM 1% 1/10W 0603; Part Number: RES-01145; Manufacturer: Vishay Dale; Manufacturer PN: CRCW06037K32FKEA; Resistance: 7.32k; Tolerance: ±1%; Power Rating: 1/10W; Cost: 0.1
footprint chip_0603
pins: 1, 2

## RES-01146
designator R?, comment 4.53
RES SMD 4.53 OHM 1% 1/10W 0603; Part Number: RES-01146; Manufacturer: Vishay Dale; Manufacturer PN: CRCW06034R53FKEA; Resistance: 4.53; Tolerance: ±1%; Power Rating: 1/10W; Cost: 0.1
footprint chip_0603
pins: 1, 2

## RES-01147
designator R?, comment 3.6
RES SMD 3.6 OHM 1% 1/10W 0603; Part Number: RES-01147; Manufacturer: Vishay Dale; Manufacturer PN: CRCW06033R60FKEA; Resistance: 3.6; Tolerance: ±1%; Power Rating: 1/10W; Cost: 0.1
footprint chip_0603
pins: 1, 2

## RES-01148
designator R?, comment 9.1M
RES SMD 9.1M OHM 1% 1/10W 0603; Part Number: RES-01148; Manufacturer: Vishay Dale; Manufacturer PN: CRCW06039M10FKEA; Resistance: 9.1M; Tolerance: ±1%; Power Rating: 1/10W; Cost: 0.1
footprint chip_0603
pins: 1, 2

## RES-01149
designator R?, comment 1.15k
RES SMD 1.15K OHM 1% 1/10W 0603; Part Number: RES-01149; Manufacturer: Vishay Dale; Manufacturer PN: CRCW06031K15FKEA; Resistance: 1.15k; Tolerance: ±1%; Power Rating: 1/10W; Cost: 0.1
footprint chip_0603
pins: 1, 2

## RES-01150
designator R?, comment 127
RES SMD 127 OHM 1% 1/10W 0603; Part Number: RES-01150; Manufacturer: Vishay Dale; Manufacturer PN: CRCW0603127RFKEA; Resistance: 127; Tolerance: ±1%; Power Rating: 1/10W; Cost: 0.1
footprint chip_0603
pins: 1, 2

## RES-01151
designator R?, comment 4.02k
RES SMD 4.02K OHM 1% 1/10W 0603; Part Number: RES-01151; Manufacturer: Vishay Dale; Manufacturer PN: CRCW06034K02FKEB; Resistance: 4.02k; Tolerance: ±1%; Power Rating: 1/10W; Cost: 0.1
footprint chip_0603
pins: 1, 2

## RES-01152
designator R?, comment 768k
RES SMD 768K OHM 1% 1/10W 0603; Part Number: RES-01152; Manufacturer: Vishay Dale; Manufacturer PN: CRCW0603768KFKEA; Resistance: 768k; Tolerance: ±1%; Power Rating: 1/10W; Cost: 0.1
footprint chip_0603
pins: 1, 2

## RES-01153
designator R?, comment 8.87
RES SMD 8.87 OHM 1% 1/10W 0603; Part Number: RES-01153; Manufacturer: Vishay Dale; Manufacturer PN: CRCW06038R87FKEA; Resistance: 8.87; Tolerance: ±1%; Power Rating: 1/10W; Cost: 0.1
footprint chip_0603
pins: 1, 2

## RES-01154
designator R?, comment 402k
RES SMD 402K OHM 1% 1/10W 0603; Part Number: RES-01154; Manufacturer: Vishay Dale; Manufacturer PN: CRCW0603402KFKEA; Resistance: 402k; Tolerance: ±1%; Power Rating: 1/10W; Cost: 0.1
footprint chip_0603
pins: 1, 2

## RES-01155
designator R?, comment 7.15
RES SMD 7.15 OHM 1% 1/10W 0603; Part Number: RES-01155; Manufacturer: Vishay Dale; Manufacturer PN: CRCW06037R15FKEA; Resistance: 7.15; Tolerance: ±1%; Power Rating: 1/10W; Cost: 0.1
footprint chip_0603
pins: 1, 2

## RES-01156
designator R?, comment 1.58k
RES SMD 1.58K OHM 1% 1/10W 0603; Part Number: RES-01156; Manufacturer: Vishay Dale; Manufacturer PN: CRCW06031K58FKEA; Resistance: 1.58k; Tolerance: ±1%; Power Rating: 1/10W; Cost: 0.1
footprint chip_0603
pins: 1, 2

## RES-01157
designator R?, comment 11
RES SMD 11 OHM 1% 1/10W 0603; Part Number: RES-01157; Manufacturer: Vishay Dale; Manufacturer PN: CRCW060311R0FKEA; Resistance: 11; Tolerance: ±1%; Power Rating: 1/10W; Cost: 0.1
footprint chip_0603
pins: 1, 2

## RES-01158
designator R?, comment 1.13
RES SMD 1.13 OHM 1% 1/10W 0603; Part Number: RES-01158; Manufacturer: Vishay Dale; Manufacturer PN: CRCW06031R13FKEA; Resistance: 1.13; Tolerance: ±1%; Power Rating: 1/10W; Cost: 0.1
footprint chip_0603
pins: 1, 2

## RES-01159
designator R?, comment 30.1k
RES SMD 30.1K OHM 1% 1/10W 0603; Part Number: RES-01159; Manufacturer: Vishay Dale; Manufacturer PN: CRCW060330K1FKEA; Resistance: 30.1k; Tolerance: ±1%; Power Rating: 1/10W; Cost: 0.1
footprint chip_0603
pins: 1, 2

## RES-01160
designator R?, comment 51.1
RES SMD 51.1 OHM 1% 1/10W 0603; Part Number: RES-01160; Manufacturer: Vishay Dale; Manufacturer PN: CRCW060351R1FKEB; Resistance: 51.1; Tolerance: ±1%; Power Rating: 1/10W; Cost: 0.1
footprint chip_0603
pins: 1, 2

## RES-01161
designator R?, comment 931k
RES SMD 931K OHM 1% 1/10W 0603; Part Number: RES-01161; Manufacturer: Vishay Dale; Manufacturer PN: CRCW0603931KFKEA; Resistance: 931k; Tolerance: ±1%; Power Rating: 1/10W; Cost: 0.1
footprint chip_0603
pins: 1, 2

## RES-01162
designator R?, comment 499
RES SMD 499 OHM 1% 1/10W 0603; Part Number: RES-01162; Manufacturer: Vishay Dale; Manufacturer PN: CRCW0603499RFKEA; Resistance: 499; Tolerance: ±1%; Power Rating: 1/10W; Cost: 0.1
footprint chip_0603
pins: 1, 2

## RES-01163
designator R?, comment 38.3
RES SMD 38.3 OHM 1% 1/10W 0603; Part Number: RES-01163; Manufacturer: Vishay Dale; Manufacturer PN: CRCW060338R3FKEA; Resistance: 38.3; Tolerance: ±1%; Power Rating: 1/10W; Cost: 0.1
footprint chip_0603
pins: 1, 2

## RES-01164
designator R?, comment 61.9k
RES SMD 61.9K OHM 1% 1/10W 0603; Part Number: RES-01164; Manufacturer: Vishay Dale; Manufacturer PN: CRCW060361K9FKEB; Resistance: 61.9k; Tolerance: ±1%; Power Rating: 1/10W; Cost: 0.1
footprint chip_0603
pins: 1, 2

## RES-01165
designator R?, comment 432k
RES SMD 432K OHM 1% 1/10W 0603; Part Number: RES-01165; Manufacturer: Vishay Dale; Manufacturer PN: CRCW0603432KFKEA; Resistance: 432k; Tolerance: ±1%; Power Rating: 1/10W; Cost: 0.1
footprint chip_0603
pins: 1, 2

## RES-01166
designator R?, comment 4.99k
RES SMD 4.99K OHM 1% 1/10W 0603; Part Number: RES-01166; Manufacturer: Vishay Dale; Manufacturer PN: CRCW06034K99FKEB; Resistance: 4.99k; Tolerance: ±1%; Power Rating: 1/10W; Cost: 0.1
footprint chip_0603
pins: 1, 2

## RES-01167
designator R?, comment 2.37
RES SMD 2.37 OHM 1% 1/10W 0603; Part Number: RES-01167; Manufacturer: Vishay Dale; Manufacturer PN: CRCW06032R37FKEA; Resistance: 2.37; Tolerance: ±1%; Power Rating: 1/10W; Cost: 0.1
footprint chip_0603
pins: 1, 2

## RES-01168
designator R?, comment 3k
RES SMD 3K OHM 1% 1/10W 0603; Part Number: RES-01168; Manufacturer: Vishay Dale; Manufacturer PN: CRCW06033K00FKEB; Resistance: 3k; Tolerance: ±1%; Power Rating: 1/10W; Cost: 0.1
footprint chip_0603
pins: 1, 2

## RES-01169
designator R?, comment 35.7
RES SMD 35.7 OHM 1% 1/10W 0603; Part Number: RES-01169; Manufacturer: Vishay Dale; Manufacturer PN: CRCW060335R7FKEA; Resistance: 35.7; Tolerance: ±1%; Power Rating: 1/10W; Cost: 0.1
footprint chip_0603
pins: 1, 2

## RES-01170
designator R?, comment 100k
RES SMD 100K OHM 1% 1/10W 0603; Part Number: RES-01170; Manufacturer: Vishay Dale; Manufacturer PN: CRCW0603100KFKEC; Resistance: 100k; Tolerance: ±1%; Power Rating: 1/10W; Cost: 0.1
footprint chip_0603
pins: 1, 2

## RES-01171
designator R?, comment 20
RES SMD 20 OHM 1% 1/10W 0603; Part Number: RES-01171; Manufacturer: Vishay Dale; Manufacturer PN: CRCW060320R0FKEB; Resistance: 20; Tolerance: ±1%; Power Rating: 1/10W; Cost: 0.1
footprint chip_0603
pins: 1, 2

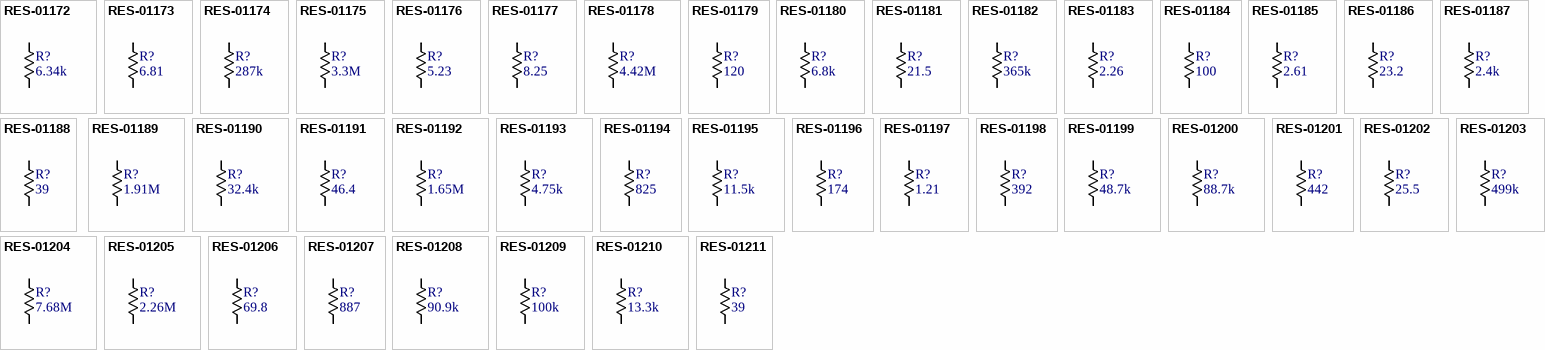
[diagram p31: symbols RES-01172 to RES-01211]

## RES-01172
designator R?, comment 6.34k
RES SMD 6.34K OHM 1% 1/10W 0603; Part Number: RES-01172; Manufacturer: Vishay Dale; Manufacturer PN: CRCW06036K34FKEA; Resistance: 6.34k; Tolerance: ±1%; Power Rating: 1/10W; Cost: 0.1
footprint chip_0603
pins: 1, 2

## RES-01173
designator R?, comment 6.81
RES SMD 6.81 OHM 1% 1/10W 0603; Part Number: RES-01173; Manufacturer: Vishay Dale; Manufacturer PN: CRCW06036R81FKEA; Resistance: 6.81; Tolerance: ±1%; Power Rating: 1/10W; Cost: 0.1
footprint chip_0603
pins: 1, 2

## RES-01174
designator R?, comment 287k
RES SMD 287K OHM 1% 1/10W 0603; Part Number: RES-01174; Manufacturer: Vishay Dale; Manufacturer PN: CRCW0603287KFKEA; Resistance: 287k; Tolerance: ±1%; Power Rating: 1/10W; Cost: 0.1
footprint chip_0603
pins: 1, 2

## RES-01175
designator R?, comment 3.3M
RES SMD 3.3M OHM 1% 1/10W 0603; Part Number: RES-01175; Manufacturer: Vishay Dale; Manufacturer PN: CRCW06033M30FKEA; Resistance: 3.3M; Tolerance: ±1%; Power Rating: 1/10W; Cost: 0.1
footprint chip_0603
pins: 1, 2

## RES-01176
designator R?, comment 5.23
RES SMD 5.23 OHM 1% 1/10W 0603; Part Number: RES-01176; Manufacturer: Vishay Dale; Manufacturer PN: CRCW06035R23FKEA; Resistance: 5.23; Tolerance: ±1%; Power Rating: 1/10W; Cost: 0.1
footprint chip_0603
pins: 1, 2

## RES-01177
designator R?, comment 8.25
RES SMD 8.25 OHM 1% 1/10W 0603; Part Number: RES-01177; Manufacturer: Vishay Dale; Manufacturer PN: CRCW06038R25FKEA; Resistance: 8.25; Tolerance: ±1%; Power Rating: 1/10W; Cost: 0.1
footprint chip_0603
pins: 1, 2

## RES-01178
designator R?, comment 4.42M
RES SMD 4.42M OHM 1% 1/10W 0603; Part Number: RES-01178; Manufacturer: Vishay Dale; Manufacturer PN: CRCW06034M42FKEA; Resistance: 4.42M; Tolerance: ±1%; Power Rating: 1/10W; Cost: 0.1
footprint chip_0603
pins: 1, 2

## RES-01179
designator R?, comment 120
RES SMD 120 OHM 1% 1/10W 0603; Part Number: RES-01179; Manufacturer: Vishay Dale; Manufacturer PN: CRCW0603120RFKEB; Resistance: 120; Tolerance: ±1%; Power Rating: 1/10W; Cost: 0.1
footprint chip_0603
pins: 1, 2

## RES-01180
designator R?, comment 6.8k
RES SMD 6.8K OHM 1% 1/10W 0603; Part Number: RES-01180; Manufacturer: Vishay Dale; Manufacturer PN: CRCW06036K80FKEB; Resistance: 6.8k; Tolerance: ±1%; Power Rating: 1/10W; Cost: 0.1
footprint chip_0603
pins: 1, 2

## RES-01181
designator R?, comment 21.5
RES SMD 21.5 OHM 1% 1/10W 0603; Part Number: RES-01181; Manufacturer: Vishay Dale; Manufacturer PN: CRCW060321R5FKEA; Resistance: 21.5; Tolerance: ±1%; Power Rating: 1/10W; Cost: 0.1
footprint chip_0603
pins: 1, 2

## RES-01182
designator R?, comment 365k
RES SMD 365K OHM 1% 1/10W 0603; Part Number: RES-01182; Manufacturer: Vishay Dale; Manufacturer PN: CRCW0603365KFKEA; Resistance: 365k; Tolerance: ±1%; Power Rating: 1/10W; Cost: 0.1
footprint chip_0603
pins: 1, 2

## RES-01183
designator R?, comment 2.26
RES SMD 2.26 OHM 1% 1/10W 0603; Part Number: RES-01183; Manufacturer: Vishay Dale; Manufacturer PN: CRCW06032R26FKEA; Resistance: 2.26; Tolerance: ±1%; Power Rating: 1/10W; Cost: 0.1
footprint chip_0603
pins: 1, 2

## RES-01184
designator R?, comment 100
RES SMD 100 OHM 1% 1/10W 0603; Part Number: RES-01184; Manufacturer: Vishay Dale; Manufacturer PN: CRCW0603100RFKTA; Resistance: 100; Tolerance: ±1%; Power Rating: 1/10W; Cost: 0.1
footprint chip_0603
pins: 1, 2

## RES-01185
designator R?, comment 2.61
RES SMD 2.61 OHM 1% 1/10W 0603; Part Number: RES-01185; Manufacturer: Vishay Dale; Manufacturer PN: CRCW06032R61FKEA; Resistance: 2.61; Tolerance: ±1%; Power Rating: 1/10W; Cost: 0.1
footprint chip_0603
pins: 1, 2

## RES-01186
designator R?, comment 23.2
RES SMD 23.2 OHM 1% 1/10W 0603; Part Number: RES-01186; Manufacturer: Vishay Dale; Manufacturer PN: CRCW060323R2FKEA; Resistance: 23.2; Tolerance: ±1%; Power Rating: 1/10W; Cost: 0.1
footprint chip_0603
pins: 1, 2

## RES-01187
designator R?, comment 2.4k
RES SMD 2.4K OHM 1% 1/10W 0603; Part Number: RES-01187; Manufacturer: Vishay Dale; Manufacturer PN: CRCW06032K40FKEB; Resistance: 2.4k; Tolerance: ±1%; Power Rating: 1/10W; Cost: 0.1
footprint chip_0603
pins: 1, 2

## RES-01188
designator R?, comment 39
RES SMD 39 OHM 1% 1/10W 0603; Part Number: RES-01188; Manufacturer: Vishay Dale; Manufacturer PN: CRCW060339R0FKEB; Resistance: 39; Tolerance: ±1%; Power Rating: 1/10W; Cost: 0.1
footprint chip_0603
pins: 1, 2

## RES-01189
designator R?, comment 1.91M
RES SMD 1.91M OHM 1% 1/10W 0603; Part Number: RES-01189; Manufacturer: Vishay Dale; Manufacturer PN: CRCW06031M91FKEA; Resistance: 1.91M; Tolerance: ±1%; Power Rating: 1/10W; Cost: 0.1
footprint chip_0603
pins: 1, 2

## RES-01190
designator R?, comment 32.4k
RES SMD 32.4K OHM 1% 1/10W 0603; Part Number: RES-01190; Manufacturer: Vishay Dale; Manufacturer PN: CRCW060332K4FKEB; Resistance: 32.4k; Tolerance: ±1%; Power Rating: 1/10W; Cost: 0.1
footprint chip_0603
pins: 1, 2

## RES-01191
designator R?, comment 46.4
RES SMD 46.4 OHM 1% 1/10W 0603; Part Number: RES-01191; Manufacturer: Vishay Dale; Manufacturer PN: CRCW060346R4FKEA; Resistance: 46.4; Tolerance: ±1%; Power Rating: 1/10W; Cost: 0.1
footprint chip_0603
pins: 1, 2

## RES-01192
designator R?, comment 1.65M
RES SMD 1.65M OHM 1% 1/10W 0603; Part Number: RES-01192; Manufacturer: Vishay Dale; Manufacturer PN: CRCW06031M65FKEA; Resistance: 1.65M; Tolerance: ±1%; Power Rating: 1/10W; Cost: 0.1
footprint chip_0603
pins: 1, 2

## RES-01193
designator R?, comment 4.75k
RES SMD 4.75K OHM 1% 1/10W 0603; Part Number: RES-01193; Manufacturer: Vishay Dale; Manufacturer PN: CRCW06034K75FKEB; Resistance: 4.75k; Tolerance: ±1%; Power Rating: 1/10W; Cost: 0.1
footprint chip_0603
pins: 1, 2

## RES-01194
designator R?, comment 825
RES SMD 825 OHM 1% 1/10W 0603; Part Number: RES-01194; Manufacturer: Vishay Dale; Manufacturer PN: CRCW0603825RFKEA; Resistance: 825; Tolerance: ±1%; Power Rating: 1/10W; Cost: 0.1
footprint chip_0603
pins: 1, 2

## RES-01195
designator R?, comment 11.5k
RES SMD 11.5K OHM 1% 1/10W 0603; Part Number: RES-01195; Manufacturer: Vishay Dale; Manufacturer PN: CRCW060311K5FKEA; Resistance: 11.5k; Tolerance: ±1%; Power Rating: 1/10W; Cost: 0.1
footprint chip_0603
pins: 1, 2

## RES-01196
designator R?, comment 174
RES SMD 174 OHM 1% 1/10W 0603; Part Number: RES-01196; Manufacturer: Vishay Dale; Manufacturer PN: CRCW0603174RFKEA; Resistance: 174; Tolerance: ±1%; Power Rating: 1/10W; Cost: 0.1
footprint chip_0603
pins: 1, 2

## RES-01197
designator R?, comment 1.21
RES SMD 1.21 OHM 1% 1/10W 0603; Part Number: RES-01197; Manufacturer: Vishay Dale; Manufacturer PN: CRCW06031R21FKEA; Resistance: 1.21; Tolerance: ±1%; Power Rating: 1/10W; Cost: 0.1
footprint chip_0603
pins: 1, 2

## RES-01198
designator R?, comment 392
RES SMD 392 OHM 1% 1/10W 0603; Part Number: RES-01198; Manufacturer: Vishay Dale; Manufacturer PN: CRCW0603392RFKEA; Resistance: 392; Tolerance: ±1%; Power Rating: 1/10W; Cost: 0.1
footprint chip_0603
pins: 1, 2

## RES-01199
designator R?, comment 48.7k
RES SMD 48.7K OHM 1% 1/10W 0603; Part Number: RES-01199; Manufacturer: Vishay Dale; Manufacturer PN: CRCW060348K7FKEA; Resistance: 48.7k; Tolerance: ±1%; Power Rating: 1/10W; Cost: 0.1
footprint chip_0603
pins: 1, 2

## RES-01200
designator R?, comment 88.7k
RES SMD 88.7K OHM 1% 1/10W 0603; Part Number: RES-01200; Manufacturer: Vishay Dale; Manufacturer PN: CRCW060388K7FKEB; Resistance: 88.7k; Tolerance: ±1%; Power Rating: 1/10W; Cost: 0.1
footprint chip_0603
pins: 1, 2

## RES-01201
designator R?, comment 442
RES SMD 442 OHM 1% 1/10W 0603; Part Number: RES-01201; Manufacturer: Vishay Dale; Manufacturer PN: CRCW0603442RFKEA; Resistance: 442; Tolerance: ±1%; Power Rating: 1/10W; Cost: 0.1
footprint chip_0603
pins: 1, 2

## RES-01202
designator R?, comment 25.5
RES SMD 25.5 OHM 1% 1/10W 0603; Part Number: RES-01202; Manufacturer: Vishay Dale; Manufacturer PN: CRCW060325R5FKEA; Resistance: 25.5; Tolerance: ±1%; Power Rating: 1/10W; Cost: 0.1
footprint chip_0603
pins: 1, 2

## RES-01203
designator R?, comment 499k
RES SMD 499K OHM 1% 1/10W 0603; Part Number: RES-01203; Manufacturer: Vishay Dale; Manufacturer PN: CRCW0603499KFKTA; Resistance: 499k; Tolerance: ±1%; Power Rating: 1/10W; Cost: 0.1
footprint chip_0603
pins: 1, 2

## RES-01204
designator R?, comment 7.68M
RES SMD 7.68M OHM 1% 1/10W 0603; Part Number: RES-01204; Manufacturer: Vishay Dale; Manufacturer PN: CRCW06037M68FKEA; Resistance: 7.68M; Tolerance: ±1%; Power Rating: 1/10W; Cost: 0.1
footprint chip_0603
pins: 1, 2

## RES-01205
designator R?, comment 2.26M
RES SMD 2.26M OHM 1% 1/10W 0603; Part Number: RES-01205; Manufacturer: Vishay Dale; Manufacturer PN: CRCW06032M26FKEA; Resistance: 2.26M; Tolerance: ±1%; Power Rating: 1/10W; Cost: 0.1
footprint chip_0603
pins: 1, 2

## RES-01206
designator R?, comment 69.8
RES SMD 69.8 OHM 1% 1/10W 0603; Part Number: RES-01206; Manufacturer: Vishay Dale; Manufacturer PN: CRCW060369R8FKEA; Resistance: 69.8; Tolerance: ±1%; Power Rating: 1/10W; Cost: 0.1
footprint chip_0603
pins: 1, 2

## RES-01207
designator R?, comment 887
RES SMD 887 OHM 1% 1/10W 0603; Part Number: RES-01207; Manufacturer: Vishay Dale; Manufacturer PN: CRCW0603887RFKEA; Resistance: 887; Tolerance: ±1%; Power Rating: 1/10W; Cost: 0.1
footprint chip_0603
pins: 1, 2

## RES-01208
designator R?, comment 90.9k
RES SMD 90.9K OHM 1% 1/10W 0603; Part Number: RES-01208; Manufacturer: Vishay Dale; Manufacturer PN: CRCW060390K9FKEB; Resistance: 90.9k; Tolerance: ±1%; Power Rating: 1/10W; Cost: 0.1
footprint chip_0603
pins: 1, 2

## RES-01209
designator R?, comment 100k
RES SMD 100K OHM 1% 1/10W 0603; Part Number: RES-01209; Manufacturer: Vishay Dale; Manufacturer PN: CRCW0603100KFKTA; Resistance: 100k; Tolerance: ±1%; Power Rating: 1/10W; Cost: 0.1
footprint chip_0603
pins: 1, 2

## RES-01210
designator R?, comment 13.3k
RES SMD 13.3K OHM 1% 1/10W 0603; Part Number: RES-01210; Manufacturer: Vishay Dale; Manufacturer PN: CRCW060313K3FKEA; Resistance: 13.3k; Tolerance: ±1%; Power Rating: 1/10W; Cost: 0.1
footprint chip_0603
pins: 1, 2

## RES-01211
designator R?, comment 39
RES SMD 39 OHM 1% 1/10W 0603; Part Number: RES-01211; Manufacturer: Vishay Dale; Manufacturer PN: CRCW060339R0FKEA; Resistance: 39; Tolerance: ±1%; Power Rating: 1/10W; Cost: 0.1
footprint chip_0603
pins: 1, 2

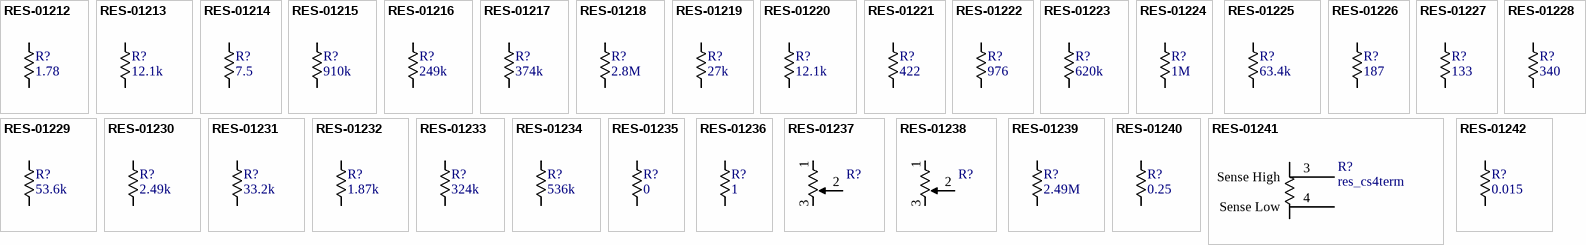
[diagram p32: symbols RES-01212 to RES-01242]